# EAGLE library part TPS62087RLTR (library sjg-ti)
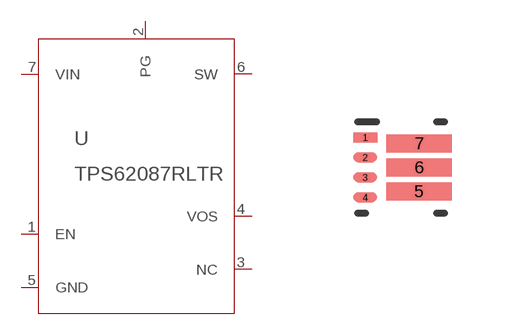
[diagram p0: symbol with the pads of RLT0007A; footprint RLT0007A]

Designator prefix -

## TPS62087RLTR (DATASHEETURL: httpwww.ti.comproducttps62087; FREQUENCY: 100000.0; IMAX: 3.0; MANUFACTURER_NAME: Texas Instruments; MANUFACTURER_PART_NUMBER: TPS62087RLTR; MKTG_PACKAGE: TPS62087; NSID: TPS62087RLTR; PACKAGE: TPS62087; VENDOR: Texas Instruments)  [RLT0007A]
1  EN  pas
2  PG  pas
3  NC  pas
4  VOS  pas
5  GND  pas
6  SW  pas
7  VIN  pas

## Footprint RLT0007A (pad centres in mm)
smd 0.6 x 0.25: 1 -0.9,0.75; 2 -0.9,0.25; 3 -0.9,-0.25; 4 -0.9,-0.75
smd 1.64 x 0.44: 5 0.45,-0.6; 6 0.45,0; 7 0.45,0.6